# EAGLE library part DSPIC33EP256MU806-X_PT (library dspic33ep)
dsPIC33EP256MU806-X_PT QFP64 10x10
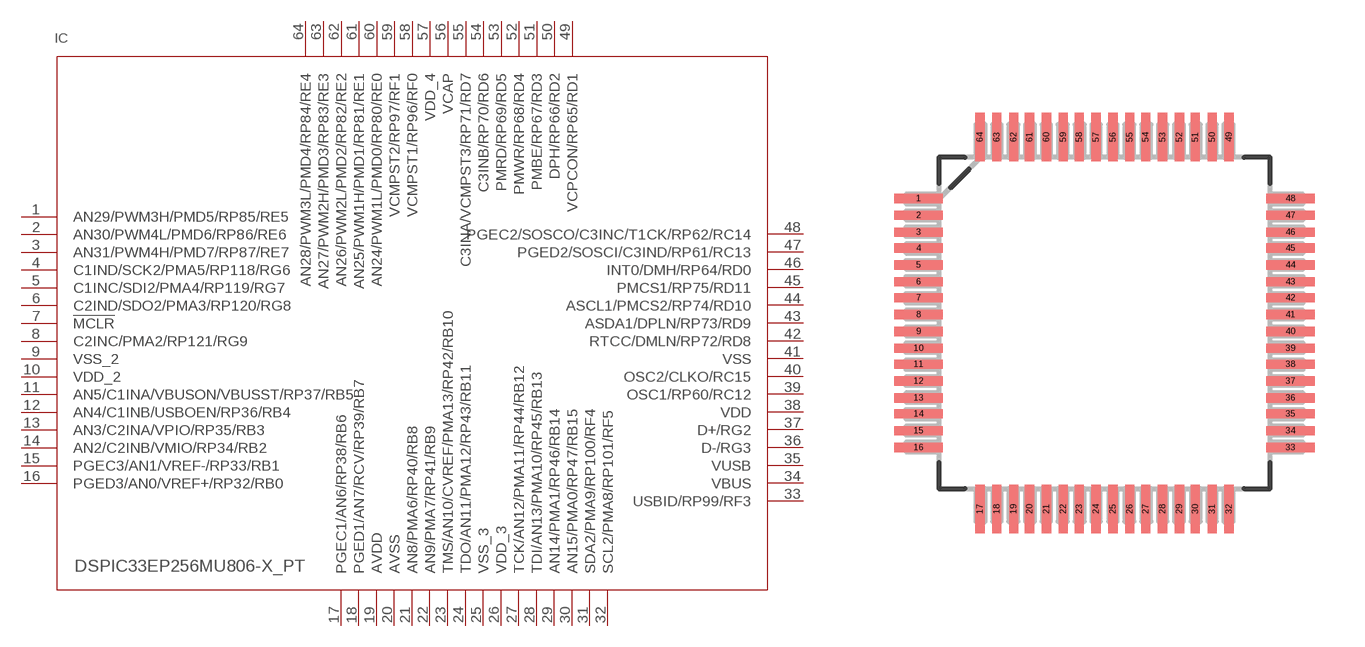
[diagram p8: symbol with the pads of QFP64-10X10MC; footprint QFP64-10X10MC]

Designator prefix IC

## DSPIC33EP256MU806-X_PT  [QFP64-10X10MC]
1  AN29/PWM3H/PMD5/RP85/RE5  pas
2  AN30/PWM4L/PMD6/RP86/RE6  pas
3  AN31/PWM4H/PMD7/RP87/RE7  pas
4  C1IND/SCK2/PMA5/RP118/RG6  pas
5  C1INC/SDI2/PMA4/RP119/RG7  pas
6  C2IND/SDO2/PMA3/RP120/RG8  pas
7  !MCLR  in
8  C2INC/PMA2/RP121/RG9  pas
9  VSS_2  pwr
10  VDD_2  pwr
11  AN5/C1INA/VBUSON/VBUSST/RP37/RB5  pas
12  AN4/C1INB/USBOEN/RP36/RB4  pas
13  AN3/C2INA/VPIO/RP35/RB3  pas
14  AN2/C2INB/VMIO/RP34/RB2  pas
15  PGEC3/AN1/VREF-/RP33/RB1  pas
16  PGED3/AN0/VREF+/RP32/RB0  pas
17  PGEC1/AN6/RP38/RB6  pas
18  PGED1/AN7/RCV/RP39/RB7  pas
19  AVDD  pwr
20  AVSS  pwr
21  AN8/PMA6/RP40/RB8  pas
22  AN9/PMA7/RP41/RB9  pas
23  TMS/AN10/CVREF/PMA13/RP42/RB10  pas
24  TDO/AN11/PMA12/RP43/RB11  pas
25  VSS_3  pwr
26  VDD_3  pwr
27  TCK/AN12/PMA11/RP44/RB12  pas
28  TDI/AN13/PMA10/RP45/RB13  pas
29  AN14/PMA1/RP46/RB14  pas
30  AN15/PMA0/RP47/RB15  pas
31  SDA2/PMA9/RP100/RF4  pas
32  SCL2/PMA8/RP101/RF5  pas
33  USBID/RP99/RF3  pas
34  VBUS  pwr
35  VUSB  pwr
36  D-/RG3  pas
37  D+/RG2  pas
38  VDD  pwr
39  OSC1/RP60/RC12  pas
40  OSC2/CLKO/RC15  pas
41  VSS  pwr
42  RTCC/DMLN/RP72/RD8  pas
43  ASDA1/DPLN/RP73/RD9  pas
44  ASCL1/PMCS2/RP74/RD10  pas
45  PMCS1/RP75/RD11  pas
46  INT0/DMH/RP64/RD0  pas
47  PGED2/SOSCI/C3IND/RP61/RC13  pas
48  PGEC2/SOSCO/C3INC/T1CK/RP62/RC14  pas
49  VCPCON/RP65/RD1  pas
50  DPH/RP66/RD2  pas
51  PMBE/RP67/RD3  pas
52  PMWR/RP68/RD4  pas
53  PMRD/RP69/RD5  pas
54  C3INB/RP70/RD6  pas
55  C3INA/VCMPST3/RP71/RD7  pas
56  VCAP  pwr
57  VDD_4  pwr
58  VCMPST1/RP96/RF0  pas
59  VCMPST2/RP97/RF1  pas
60  AN24/PWM1L/PMD0/RP80/RE0  pas
61  AN25/PWM1H/PMD1/RP81/RE1  pas
62  AN26/PWM2L/PMD2/RP82/RE2  pas
63  AN27/PWM2H/PMD3/RP83/RE3  pas
64  AN28/PWM3L/PMD4/RP84/RE4  pas

## Footprint QFP64-10X10MC (pad centres in mm)
QFP64 10x10
smd 1.473 x 0.279: 1 -5.613,3.759; 2 -5.613,3.251; 3 -5.613,2.743; 4 -5.613,2.261; 5 -5.613,1.753; 6 -5.613,1.245; 7 -5.613,0.762; 8 -5.613,0.254; 9 -5.613,-0.254; 10 -5.613,-0.762; 11 -5.613,-1.245; 12 -5.613,-1.753; 13 -5.613,-2.261; 14 -5.613,-2.743; 15 -5.613,-3.251; 16 -5.613,-3.759; 33 5.613,-3.759; 34 5.613,-3.251; 35 5.613,-2.743; 36 5.613,-2.261; 37 5.613,-1.753; 38 5.613,-1.245; 39 5.613,-0.762; 40 5.613,-0.254; 41 5.613,0.254; 42 5.613,0.762; 43 5.613,1.245; 44 5.613,1.753; 45 5.613,2.261; 46 5.613,2.743; 47 5.613,3.251; 48 5.613,3.759
smd 0.279 x 1.473: 17 -3.759,-5.613; 18 -3.251,-5.613; 19 -2.743,-5.613; 20 -2.261,-5.613; 21 -1.753,-5.613; 22 -1.245,-5.613; 23 -0.762,-5.613; 24 -0.254,-5.613; 25 0.254,-5.613; 26 0.762,-5.613; 27 1.245,-5.613; 28 1.753,-5.613; 29 2.261,-5.613; 30 2.743,-5.613; 31 3.251,-5.613; 32 3.759,-5.613; 49 3.759,5.613; 50 3.251,5.613; 51 2.743,5.613; 52 2.261,5.613; 53 1.753,5.613; 54 1.245,5.613; 55 0.762,5.613; 56 0.254,5.613; 57 -0.254,5.613; 58 -0.762,5.613; 59 -1.245,5.613; 60 -1.753,5.613; 61 -2.261,5.613; 62 -2.743,5.613; 63 -3.251,5.613; 64 -3.759,5.613